# EAGLE library part DPDT-CK_PN_2XL_SERIES (library Eagle3D-Switch)
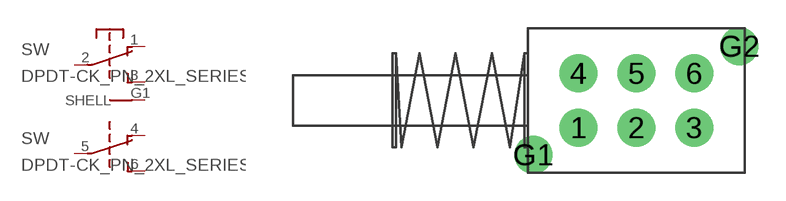
[diagram p0: symbol with the pads of CK-PN2XL; footprint CK-PN2XL]

Designator prefix SW; gates G$1=DPDT-1 G$2=DPDT-2

## DPDT-CK_PN_2XL_SERIES_MOMENTARY  [CK-PN2XL]
1  G$1:NC-1  pas
2  G$1:P-1  pas
3  G$1:NO-1  pas
4  G$2:NC-1  pas
5  G$2:P-1  pas
6  G$2:NO-1  pas
G1  G$1:SHELL

## DPDT-CK_PN_2XL_SERIES_ON/ON  [CK-PN2XL]
Pads as for CK-PN2XL

## Footprint CK-PN2XL (pad centres in mm)
drill 1.4 round: 1 -3.2,-1.5; 2 0,-1.5; 3 3.2,-1.5; 4 -3.2,1.5; 5 0,1.5; 6 3.2,1.5; G1 -5.7,-3; G2 5.7,3